# Altium schematic symbol library 2020-10-26_19-15-18.SchLib: 15 symbols
Pins are listed as number, name and electrical type; pins without a type are passive.

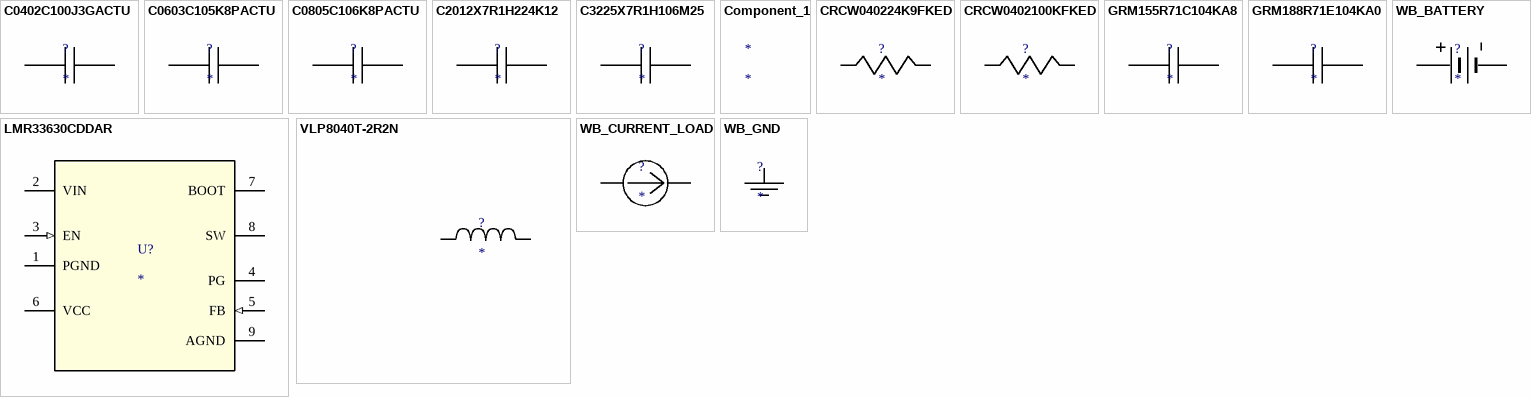
[diagram p0: symbols C0402C100J3GACTU to WB_GND]

## C0402C100J3GACTU
designator ?
Imported; Manufacturer_Part_Number: C0402C100J3GACTU; Vendor: Kemet; Manufacturer_Name: Kemet; RefDes: RefDes; TYPE: TYPE; Value: Value
footprint 0402
pins: 1, 2

## C0603C105K8PACTU
designator ?
Imported; Manufacturer_Part_Number: C0603C105K8PACTU; Vendor: Kemet; Manufacturer_Name: Kemet; RefDes: RefDes; TYPE: TYPE; Value: Value
footprint 0603
pins: 1, 2

## C0805C106K8PACTU
designator ?
Imported; Manufacturer_Part_Number: C0805C106K8PACTU; Vendor: Kemet; Manufacturer_Name: Kemet; RefDes: RefDes; TYPE: TYPE; Value: Value
footprint 0805
pins: 1, 2

## C2012X7R1H224K12
designator ?
Imported; Manufacturer_Part_Number: C2012X7R1H224K125AA; Vendor: TDK; Manufacturer_Name: TDK; RefDes: RefDes; TYPE: TYPE; Value: Value
footprint 0805
pins: 1, 2

## C3225X7R1H106M25
designator ?
Imported; Manufacturer_Part_Number: C3225X7R1H106M250AC; Vendor: TDK; Manufacturer_Name: TDK; RefDes: RefDes; TYPE: TYPE; Value: Value
footprint 1210
pins: 1, 2

## Component_1
designator *

## CRCW040224K9FKED
designator ?
Imported; Manufacturer_Part_Number: CRCW040224K9FKED; Vendor: Vishay-Dale; Manufacturer_Name: Vishay-Dale; RefDes: RefDes; TYPE: TYPE; Value: Value
footprint 0402
pins: 1, 2

## CRCW0402100KFKED
designator ?
Imported; Manufacturer_Part_Number: CRCW0402100KFKED; Vendor: Vishay-Dale; Manufacturer_Name: Vishay-Dale; RefDes: RefDes; TYPE: TYPE; Value: Value
footprint 0402
pins: 1, 2

## GRM155R71C104KA8
designator ?
Imported; Manufacturer_Part_Number: GRM155R71C104KA88D; Vendor: MuRata; Manufacturer_Name: MuRata; RefDes: RefDes; TYPE: TYPE; Value: Value
footprint 0402
pins: 1, 2

## GRM188R71E104KA0
designator ?
Imported; Manufacturer_Part_Number: GRM188R71E104KA01D; Vendor: MuRata; Manufacturer_Name: MuRata; RefDes: RefDes; TYPE: TYPE; Value: Value
footprint 0603
pins: 1, 2

## LMR33630CDDAR
designator U?
Imported; PartNumber: LMR33630CDDAR; Manufacturer: Texas Instruments; RefDes: RefDes; TYPE: TYPE; Value: Value; Manufacturer_Part_Number: LMR33630CDDAR; Manufacturer_Name: Texas Instruments
footprint DDA0008J
pins: 1 PGND (power), 2 VIN (power), 3 EN (in), 4 PG (oc), 5 FB (in), 6 VCC (power), 7 BOOT (power), 8 SW (power), 9 AGND

## VLP8040T-2R2N
designator ?
Imported; Manufacturer_Part_Number: VLP8040T-2R2N; Vendor: TDK; DESCRIPTION: Unknown; PACKAGE_DESIGNATOR: VLP8040; Manufacturer: TDK; Manufacturer_Name: TDK; RefDes: RefDes; TYPE: TYPE; Value: Value
footprint VLP8040
pins: 1, 2

## WB_BATTERY
designator ?
Imported; Manufacturer_Part_Number: WB_BATTERY; PowerPortType: POWER_GROUND; Value: Value; Manufacturer_Name: WB_BATTERY; RefDes: RefDes; TYPE: TYPE
pins: 1 +, 2 -

## WB_CURRENT_LOAD
designator ?
Imported; Manufacturer_Part_Number: WB_CURRENT_LOAD; PowerPortType: POWER_GROUND; Value: Value; Manufacturer_Name: WB_CURRENT_LOAD; RefDes: RefDes; TYPE: TYPE
pins: 1 +, 2 -

## WB_GND
designator ?
Imported; Manufacturer_Part_Number: WB_GND; PowerPortType: POWER_GROUND; Value: Value; Manufacturer_Name: WB_GND; RefDes: RefDes; TYPE: TYPE
pins: 1